# Altium schematic symbol library adc_audio.SchLib: 5 symbols
Pins are listed as number, name and electrical type; pins without a type are passive.

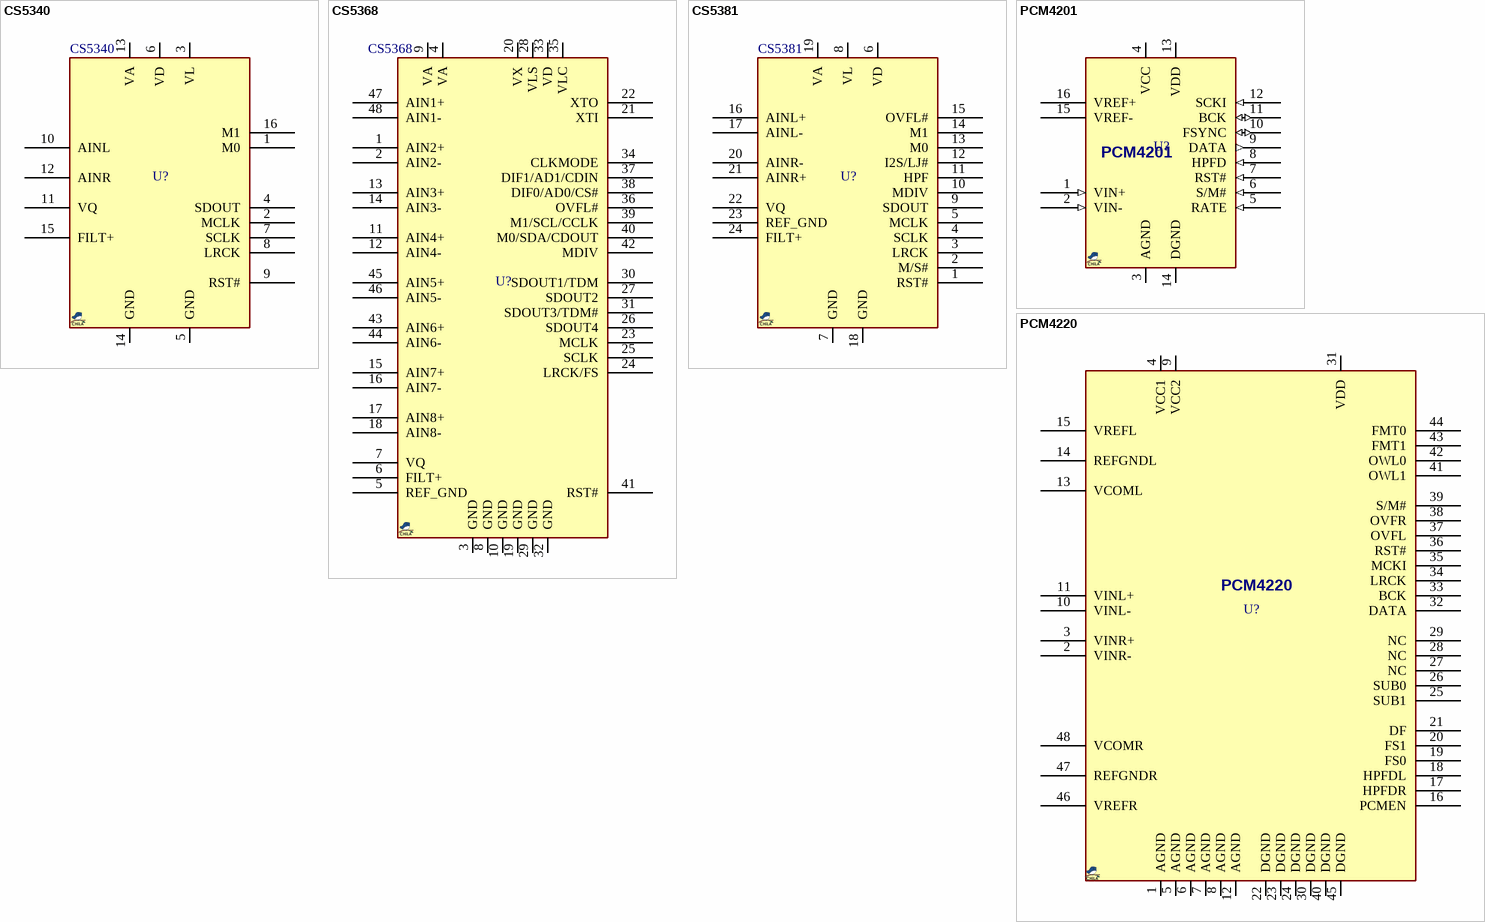
[diagram p0: symbols CS5340 to PCM4220]

## CS5340
designator U?
IC ADC AUDIO, 2 CH, 24-BIT, 192KHz, 101dB; MANF_P#: CS5340-DZ; MANF: Cirrus Logic; VALUE: CS5340
footprint SOG65_16 (PW TSSOP (TI), MO-153-AB (JEDEC), 16Lead, pitch: 0.65mm, 5x4.4x1.2mm)
pins: 1 M0, 2 MCLK, 3 VL, 4 SDOUT, 5 GND, 6 VD, 7 SCLK, 8 LRCK, 9 RST#, 10 AINL, 11 VQ, 12 AINR, 13 VA, 14 GND, 15 FILT+, 16 M1

## CS5368
designator U?
IC ADC AUDIO, 8 CH, 24-BIT, 192KHz, 114dB; MANF: Cirrus Logic; MANF_P#: CS5368-DQ; VALUE: CS5368
footprint QFG50_48 (LQFP48, PQFF, PQFG, TSQFP, 48-Leads, Body 7.00x7.00mm, Pitch 0.50mm)
pins: 1 AIN2+, 2 AIN2-, 3 GND, 4 VA, 5 REF_GND, 6 FILT+, 7 VQ, 8 GND, 9 VA, 10 GND, 11 AIN4+, 12 AIN4-, 13 AIN3+, 14 AIN3-, 15 AIN7+, 16 AIN7-, 17 AIN8+, 18 AIN8-, 19 GND, 20 VX, 21 XTI, 22 XTO, 23 MCLK, 24 LRCK/FS, 25 SCLK, 26 SDOUT4, 27 SDOUT2, 28 VLS, 29 GND, 30 SDOUT1/TDM, 31 SDOUT3/TDM#, 32 GND, 33 VD, 34 CLKMODE, 35 VLC, 36 OVFL#, 37 DIF1/AD1/CDIN, 38 DIF0/AD0/CS#, 39 M1/SCL/CCLK, 40 M0/SDA/CDOUT, 41 RST#, 42 MDIV, 43 AIN6+, 44 AIN6-, 45 AIN5+, 46 AIN5-, 47 AIN1+, 48 AIN1-

## CS5381
designator U?
IC ADC AUDIO, 2 CH, 24-BIT, 192KHz, 120dB; MANF_P#: CS5381-KZZ; MANF: Cirrus Logic; VALUE: CS5381
footprint SOG65_24 (PW TSSOP (TI), MO-153-AD (JEDEC), 24Lead, pitch: 0.65mm, 8x4.4x1.2mm)
pins: 1 RST#, 2 M/S#, 3 LRCK, 4 SCLK, 5 MCLK, 6 VD, 7 GND, 8 VL, 9 SDOUT, 10 MDIV, 11 HPF, 12 I2S/LJ#, 13 M0, 14 M1, 15 OVFL#, 16 AINL+, 17 AINL-, 18 GND, 19 VA, 20 AINR-, 21 AINR+, 22 VQ, 23 REF_GND, 24 FILT+

## PCM4201
designator U?  (value not drawn)
IC ADC AUDIO, 1 CH, 24-BIT, 108KHz, 112dB; MANF: Texas Instruments; MANF_P#: PCM4201; VALUE: PCM4201
footprint SOG65_16 (PW TSSOP (TI), MO-153-AB (JEDEC), 16Lead, pitch: 0.65mm, 5x4.4x1.2mm)
pins: 1 VIN+ (in), 2 VIN- (in), 3 AGND (power), 4 VCC (power), 5 RATE (in), 6 S/M# (in), 7 RST# (in), 8 HPFD (in), 9 DATA (out), 10 FSYNC (io), 11 BCK (io), 12 SCKI (in), 13 VDD (power), 14 DGND (power), 15 VREF- (power), 16 VREF+ (power)

## PCM4220
designator U?  (value not drawn)
IC ADC AUDIO, 2 CH, 24-BIT, 216KHz, 112dB; MANF: Texas Instruments; MANF_P#: pcm4220_pfb_48; VALUE: PCM4220
footprint QFG50_48 (LQFP48, PQFF, PQFG, TSQFP, 48-Leads, Body 7.00x7.00mm, Pitch 0.50mm)
pins: 1 AGND (power), 2 VINR-, 3 VINR+, 4 VCC1 (power), 5 AGND (power), 6 AGND (power), 7 AGND (power), 8 AGND (power), 9 VCC2 (power), 10 VINL-, 11 VINL+, 12 AGND (power), 13 VCOML, 14 REFGNDL, 15 VREFL, 16 PCMEN, 17 HPFDR, 18 HPFDL, 19 FS0, 20 FS1, 21 DF, 22 DGND (power), 23 DGND (power), 24 DGND (power), 25 SUB1, 26 SUB0, 27 NC, 28 NC, 29 NC, 30 DGND (power), 31 VDD (power), 32 DATA, 33 BCK, 34 LRCK, 35 MCKI, 36 RST#, 37 OVFL, 38 OVFR, 39 S/M#, 40 DGND (power), 41 OWL1, 42 OWL0, 43 FMT1, 44 FMT0, 45 DGND (power), 46 VREFR, 47 REFGNDR, 48 VCOMR